# Altium footprint library Base.PcbLib: 18 footprints (part 2 of 2)
Each footprint in its own frame and in the unit in brackets; x right, y up, seen from the top. Pads: shape width x height; smd on the part's side, far side on the other; paste and mask are expansions set on the pad; w line width, h text height; cw(c..) or ccw(c..) is an arc to the next point about the centre after c.
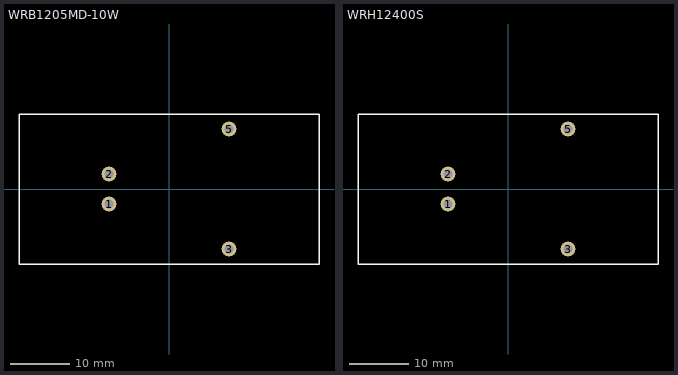
[diagram p1: the footprints below, top view; thin cyan lines are the x and y axes]

## WRB1205MD-10W [mm]
pads (4):
  round 2.5 hole 1.5: 1(-10.16,-2.54) 2(-10.16,2.54) 3(10.16,-10.16) 5(10.16,10.16)
Top Overlay:
  lines w0.254: -25.4,-12.7 -25.4,12.7 25.4,12.7 25.4,12.192 25.4,-12.7 -25.4,-12.7

## WRH12400S [mm]
pads (4):
  round 2.5 hole 1.5: 1(-10.16,-2.54) 2(-10.16,2.54) 3(10.16,-10.16) 5(10.16,10.16)
Top Overlay:
  lines w0.254: -25.4,-12.7 -25.4,12.7 25.4,12.7 25.4,12.192 25.4,-12.7 -25.4,-12.7